# Altium schematic symbol library ARCOM_freq_synthesizer.SchLib: 30 symbols
Pins are listed as number, name and electrical type; pins without a type are passive.

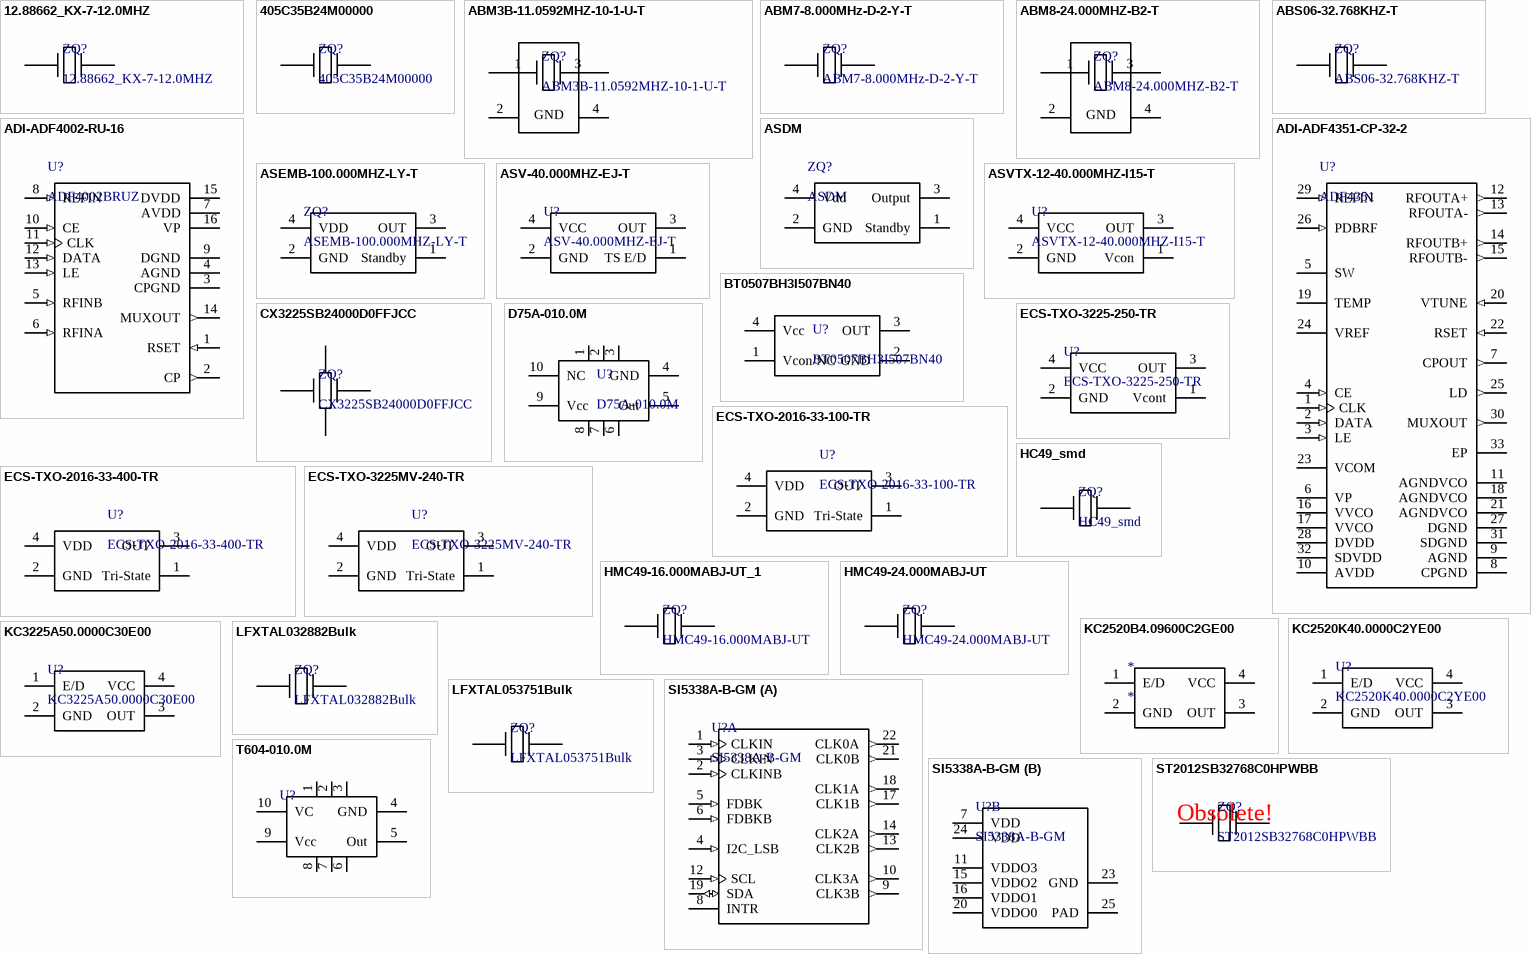
[diagram p0: symbols 12.88662_KX-7-12.0MHZ to T604-010.0M]

## 12.88662_KX-7-12.0MHZ
designator ZQ?
16MHz Crystal Oscillator, 12pF, 30ppm; Manufacturer: GEYER; ComponentLink1Description: Manufacturer; ComponentLink1URL: https://www.geyer-electronic.com; ComponentLink2Description: Datasheet; ComponentLink2URL: https://www.geyer-electronic.com/uploads/tx_userartikelfrequenzstockfr/12.88662.pdf; Manufacturer P/N: 12.88662_KX-7-12.0MHZ; Part: 12.88662_KX-7-12.0MHZ; Family: Crystall; Comments: 12pF
footprint ECS-3225 - new
pins: 1, 3

## 405C35B24M00000
designator ZQ?
24MHz Crystal Oscillator, 13pF, 50ppm; Manufacturer: CTS Electronic Components, Inc.; ComponentLink1Description: Manufacturer; ComponentLink1URL: https://www.ctscorp.com/; ComponentLink2Description: Datasheet; ComponentLink2URL: https://eu.mouser.com/datasheet/2/96/405-1770984.pdf; Manufacturer P/N: 405C35B24M00000; Part: 405C35B24M00000; Family: Crystall; Comments: 13pF; Frequency: 24MHz
footprint 405C35B
pins: 1, 3

## ABM3B-11.0592MHZ-10-1-U-T
designator ZQ?
Manufacturer: ABRACON; ComponentLink1Description: *; ComponentLink1URL: *; ComponentLink2Description: *; ComponentLink2URL: *; Family: Crystall; Manufacturer P/N: ABM3B-11.0592MHZ-10-1-U-T; Part: ABM3B-11.0592MHZ-10-1-U-T
footprint ABM3B
pins: 1, 2 GND, 3, 4 GND

## ABM7-8.000MHz-D-2-Y-T
designator ZQ?
SMD Crystal Unit 8MHz; Manufacturer: ABRACON Corporation; ComponentLink1Description: Manufacturer; ComponentLink1URL: http://www.abracon.com; ComponentLink2Description: Datasheet; ComponentLink2URL: http://www.abracon.com/Resonators/abm7.pdf; Manufacturer P/N: ABM7-8.000MHZ-D-2-Y-T; Part: ABM7-8.000MHZ-D-2-Y-T; Family: Crystall
footprint ABM7
pins: 1, 2

## ABM8-24.000MHZ-B2-T
designator ZQ?
Manufacturer: ABRACON; ComponentLink1Description: *; ComponentLink1URL: *; ComponentLink2Description: *; ComponentLink2URL: *; Family: Crystall; Manufacturer P/N: ABM8-24.000MHZ-B2-T; Part: ABM8-24.000MHZ-B2-T
footprint ABM8
pins: 1, 2 GND, 3, 4 GND

## ABS06-32.768KHZ-T
designator ZQ?
CRYSTAL 32.7680KHZ 12PF SMD; Manufacturer: Abracon LLC; ComponentLink1Description: Manufacturer; ComponentLink2Description: Datasheet; Manufacturer P/N: ABS06-32.768KHZ-T; Part: ABS06-32.768KHZ-T; Family: Crystall
footprint ST2012
pins: 1, 2

## ADI-ADF4002-RU-16
designator U?, comment ADF4002BRUZ
Phase Detector/Frequency Synthesizer, RU-16, Pb-Free, 96 Tube; Manufacturer: Analog Devices Inc.; ComponentLink1Description: Manufacturer; ComponentLink1URL: http://www.analog.com/; ComponentLink2Description: Deatasheet; ComponentLink2URL: http://www.analog.com/media/en/technical-documentation/data-sheets/ADF4002.pdf; Manufacturer P/N: ADF4002BRUZ; Part: ADF4002BRUZ; Family: Chip
footprint TSSOP-16_L (SOP, 16-Leads, Body 5.1x4.5mm, Pitch 0.65mm, IPC High Density)
footprint TSSOP-16_M (SOP, 16-Leads, Body 5.1x4.5mm, Pitch 0.65mm, IPC Low Density)
footprint TSSOP-16_N (SOP, 16-Leads, Body 5.1x4.5mm, Pitch 0.65mm, IPC Medium Density)
pins: 1 RSET (in) "Connecting a resistor between this pin and CPGND sets the maximum charge pump output current. The nominal voltage potential at the RSET pin is 0.66 V. [see datasheet]", 2 CP (out) "Charge Pump Output. When enabled, this provides ±ICP to the external loop filter that, in turn, drives the external VCO.", 3 CPGND (power) "Charge Pump Ground. This is the ground return path for the charge pump.", 4 AGND (power) "Analog Ground. This is the ground return path of the RF input.", 5 RFINB (in) "Complementary Input to the RF Input. This point must be decoupled to the ground plane with a small bypass capacitor, typically 100 pF. See Figure 11.", 6 RFINA (in) "Input to the RF Input. This small signal input is ac-coupled to the external VCO.", 7 AVDD (power) "Analog Power Supply. This can range from 2.7 V to 3.3 V. Decoupling capacitors to the analog ground plane should be placed as close as possible to the AVDD pin. [see datasheet]", 8 REFIN (in) "Reference Input. This is a CMOS input with a nominal threshold of VDD/2 and a dc equivalent input resistance of 100 kO. See Figure 10. [see datasheet]", 9 DGND (power) "Digital Ground.", 10 CE (in) "Chip Enable. A logic low on this pin powers down the device and puts the charge pump output into three-state mode. [see datasheet]", 11 CLK (in) "Serial Clock Input. This serial clock is used to clock in the serial data to the registers. The data is latched into the 24-bit shift register on the CLK rising edge. [see datasheet]", 12 DATA (in) "Serial Data Input. The serial data is loaded MSB first with the two LSBs being the control bits. This input is a high impedance CMOS input.", 13 LE (in) "Load Enable, CMOS Input. When LE goes high, the data stored in the shift registers is loaded into one of the four latches; the latch is selected using the control bits.", 14 MUXOUT (out) "Multiplexer Output. This allows either the lock detect, the scaled RF, or the scaled reference frequency to be accessed externally.", 15 DVDD (power) "Digital Power Supply. This can range from 2.7 V to 3.3 V. Decoupling capacitors to the digital ground plane should be placed as close as possible to this pin. [see datasheet]", 16 VP (power) "Charge Pump Power Supply. This should be greater than or equal to VDD. In systems where VDD is 3 V, it can be set to 5.5 V and used to drive a VCO with a tuning range of up to 5 V."

## ADI-ADF4351-CP-32-2
designator U?, comment ADF4351
Wideband Synthesizer with Integrated VCO; Manufacturer: Analog Devices; ComponentLink1Description: Manufacturer; ComponentLink1URL: www.analog.com; ComponentLink2Description: Datasheet; ComponentLink2URL: http://www.analog.com/media/en/technical-documentation/data-sheets/ADF4351.pdf; Family: Chips; Manufacturer P/N: *; Part: *
footprint ADI-CP-32-2_L (QFN, 32-Leads, Body 5x5mm, Pitch 0.5mm, Thermal Pad 3.1x3.1mm, IPC High Density)
footprint ADI-CP-32-2_M (QFN, 32-Leads, Body 5x5mm, Pitch 0.5mm, Thermal Pad 3.1x3.1mm, IPC Low Density)
footprint ADI-CP-32-2_N (QFN, 32-Leads, Body 5x5mm, Pitch 0.5mm, Thermal Pad 3.1x3.1mm, IPC Medium Density)
pins: 1 CLK (in) "Serial Clock Input. Data is clocked into the 32-bit shift register on the CLK rising edge. This input is a high impedance CMOS input.", 2 DATA (in) "Serial Data Input. The serial data is loaded MSB first with the three LSBs as the control bits. This input is a highimpedance CMOS input.", 3 LE (in) "Load Enable, CMOS Input. When LE goes high, the data stored in the shift register is loaded into the register that is selected by the three LSBs.", 4 CE (in) "Chip Enable. A logic low on this pin powers down the device and puts the charge pump into three-state mode. [see datasheet]", 5 SW "Fast-Lock Switch. A connection should be made from the loop filter to this pin when using the fast-lock mode.", 6 VP (power) "Charge Pump Power Supply. This pin is to be equal to AVDD. Decoupling capacitors to the ground plane are to be placed as close as possible to this pin.", 7 CPOUT (out) "Charge Pump Output. When enabled, this provides +/-ICP to the external loop filter. The output of the loop filter is connected to VTUNE to drive the internal VCO.", 8 CPGND (power) "Charge Pump Ground. This is the ground return pin for CPOUT.", 9 AGND (power) "Analog Ground. This is a ground return pin for AVDD.", 10 AVDD (power) "Analog Power Supply. This pin ranges from 3.0 V to 3.6 V. Decoupling capacitors to the analog ground plane are to be placed as close as possible to this pin. [see datasheet]", 11 AGNDVCO (power) "VCO Analog Ground. These are the ground return pins for the VCO.", 12 RFOUTA+ (out) "VCO Output. The output level is programmable. The VCO fundamental output or a divided down version is available.", 13 RFOUTA- (out) "Complementary VCO Output. The output level is programmable. The VCO fundamental output or a divide down version is available.", 14 RFOUTB+ (out) "Auxilliary VCO Output. The output level is programmable. The VCO fundamental output or a divided down version is available.", 15 RFOUTB- (out) "Complementary Auxilliary VCO Output. The output level is programmable. The VCO fundamental output or a divided down version is available.", 16 VVCO (power) "Power Supply for the VCO. This ranges from 3.0 V to 3.6 V. Decoupling capacitors to the analog ground plane should be placed as close as possible to these pins. [see datasheet]", 17 VVCO (power) "Power Supply for the VCO. This ranges from 3.0 V to 3.6 V. Decoupling capacitors to the analog ground plane should be placed as close as possible to these pins. [see datasheet]", 18 AGNDVCO (power) "VCO Analog Ground. These are the ground return pins for the VCO.", 19 TEMP "Temperature Compensation Output. Decoupling capacitors to the ground plane are to be placed as close as possible to this pin.", 20 VTUNE (in) "Control Input to the VCO. This voltage determines the output frequency and is derived from filtering the CPOUT output voltage.", 21 AGNDVCO (power) "VCO Analog Ground. These are the ground return pins for the VCO.", 22 RSET (in) "Connecting a resistor between this pin and GND sets the charge pump output current. The nominal voltage bias at the RSET pin is 0.55 V.", 23 VCOM "Internal Compensation Node Biased at Half the Tuning Range. Decoupling capacitors to the ground plane should be placed as close as possible to this pin.", 24 VREF "Reference Voltage. Decoupling capacitors to the ground plane should be placed as close as possible to this pin.", 25 LD (out) "Lock Detect Output Pin. This pin outputs a logic high to indicate PLL lock. A logic low output indicates loss of PLL lock.", 26 PDBRF (in) "RF Power-Down. A logic low on this pin mutes the RF outputs. This function is also software controllable.", 27 DGND (power) "Digital Ground. Ground return path for DVDD.", 28 DVDD (power) "Digital Power Supply. This pin should be the same voltage as AVDD. Decoupling capacitors to the ground plane should be placed as close as possible to this pin.", 29 REFIN (in) "Reference Input. This is a CMOS input with a nominal threshold of VDD/2 and a dc equivalent input resistance of 100 k ohm. [see datasheet]", 30 MUXOUT (out) "Multiplexer Output. This multiplexer output allows either the lock detect, the scaled RF, or the scaled reference frequency to be accessed externally.", 31 SDGND (power) "Digital Sigma-Delta Modulator Ground. Ground return path for the Sigma-Delta Modulator.", 32 SDVDD (power) "Power Supply Pin for the Digital Sigma-Delta Modulator. Should be the same voltage as AVDD. Decoupling capacitors to the ground plane are to be placed as close as possible to this pin.", 33 EP (power) "Exposed Pad."

## ASDM
designator ZQ?
Manufacturer: Abracon; ComponentLink1Description: Manufacturer; ComponentLink1URL: *; ComponentLink2Description: Datasheet; ComponentLink2URL: *; family: *; Manufacturer P/N: *; part: *
footprint ASDM (2.5mm x 2mm)
pins: 1 Standby, 2 GND, 3 Output, 4 Vdd

## ASEMB-100.000MHZ-LY-T
designator ZQ?
Standard Clock Oscillators 100MHz 10ppm; Manufacturer: ABRACON Corporation; ComponentLink1Description: *; ComponentLink1URL: *; ComponentLink2Description: *; ComponentLink2URL: *; Family: Freq_synthesizer; Manufacturer P/N: ASEMB-100.000MHZ-LY-T; Part: ASEMB-100.000MHZ-LY-T
footprint ASEMB
pins: 1 Standby, 2 GND, 3 OUT, 4 VDD

## ASV-40.000MHZ-EJ-T
designator U?
3.3V HCMOS SMD Crystal Clock Oscillator 40MHz; Manufacturer: ABRACON; ComponentLink1Description: Manufacturer; ComponentLink1URL: http://www.abracon.com/; ComponentLink2Description: Datasheet; ComponentLink2URL: http://www.mouser.com/ds/2/3/ASV-24925.pdf; Family: Crystall; Part: ASV-40.000MHZ-EJ-T; Manufacturer P/N: ASV-40.000MHZ-EJ-T
footprint ASV
pins: 1 TS E/D, 2 GND, 3 OUT, 4 VCC

## ASVTX-12-40.000MHZ-I15-T
designator U?
40MHz Clipped Sine Wave VCTCXO Oscillator Surface Mount 3V 2.5mA; Manufacturer: ABRACON; ComponentLink1Description: Manufacturer; ComponentLink1URL: http://www.abracon.com/; ComponentLink2Description: Datasheet; Family: Crystall; Part: ASVTX-12-40.000MHZ-I15-T; Manufacturer P/N: ASVTX-12-40.000MHZ-I15-T
footprint ASV
pins: 1 Vcon, 2 GND, 3 OUT, 4 VCC

## BT0507BH3I507BN40
designator U?
40 MHz TCXO HCMOS Oscillator 3.3V 10-SMD, No Lead; Manufacturer: XTALTQ Technologies; Manufacturer P/N: BT0507BH3I507BN40; Family: Crystall; Part: BT0507BH3I507BN40; ComponentLink1Description: Manufacturer; ComponentLink1URL: https://www.xtaltq.com/; ComponentLink2Description: Datasheet; ComponentLink2URL: https://mm.digikey.com/Volume0/opasdata/d220001/medias/docus/3980/BT0507B.pdf
footprint BT0507
pins: 1 Vcon/NC, 2 GND, 3 OUT, 4 Vcc

## CX3225SB24000D0FFJCC
designator ZQ?
24MHz Crystal Oscillator; Manufacturer: Kyocera; Comments: 8pF; ComponentLink1Description: Manufacturer; ComponentLink2Description: Datasheet; Manufacturer P/N: CX3225SB24000D0FFJCC; Part: CX3225SB24000D0FFJCC; Family: Crystall; Frequency: 24MHz
footprint CX3225SB
pins: 1, 2, 3, 4

## D75A-010.0M
designator U?
TCXO Oscillator 10.000MHz 3.3V SMD; Manufacturer: Connor Winfield; ComponentLink1Description: Manufacturer; ComponentLink1URL: http://www.conwin.com/; ComponentLink2Description: Datasheet; ComponentLink2URL: http://www.conwin.com/datasheets/tx/tx236.pdf; Family: Crystall; Manufacturer P/N: D75A-010.0M
footprint 10-SMD(VCTCXO)
pins: 1 NC, 2 NC, 3 NC, 4 GND, 5 Out, 6 NC, 7 NC, 8 Enable/Disable, 9 Vcc, 10 NC

## ECS-TXO-2016-33-100-TR
designator U?
HCMOS TCXO; Manufacturer: ECS Inc.; ComponentLink1Description: Manufacturer; ComponentLink1URL: https://ecsxtal.com/; ComponentLink2Description: Datasheet; ComponentLink2URL: https://www.mouser.co.uk/datasheet/2/122/ECS-TXO-2016-1601065.pdf; Family: Crystall; Manufacturer P/N: ECS-TXO-2016-33-100-TR; Part: ECS-TXO-2016-33-100-TR
footprint ECS-2016
pins: 1 Tri-State, 2 GND, 3 OUT, 4 VDD

## ECS-TXO-2016-33-400-TR
designator U?
HCMOS TCXO; Manufacturer: ECS Inc.; ComponentLink1Description: Manufacturer; ComponentLink1URL: https://ecsxtal.com/; ComponentLink2Description: Datasheet; ComponentLink2URL: https://www.mouser.co.uk/datasheet/2/122/ECS-TXO-2016-1601065.pdf; Family: Crystall; Manufacturer P/N: ECS-TXO-2016-33-400-TR; Part: ECS-TXO-2016-33-400-TR
footprint ECS-2016
pins: 1 Tri-State, 2 GND, 3 OUT, 4 VDD

## ECS-TXO-3225-250-TR
designator U?
HCMOS TCXO; ComponentLink1Description: *; ComponentLink1URL: *; ComponentLink2Description: *; ComponentLink2URL: *; Family: *; Manufacturer: *; Manufacturer P/N: *; Part: *
footprint ECS-3225
pins: 1 Vcont, 2 GND, 3 OUT, 4 VCC

## ECS-TXO-3225MV-240-TR
designator U?
MultiVolt HCMOS TCXO; Manufacturer: ECS Inc.; ComponentLink1Description: Manufacturer; ComponentLink1URL: https://ecsxtal.com/; ComponentLink2Description: Datasheet; ComponentLink2URL: https://www.mouser.co.uk/datasheet/2/122/ECS-TXO-3225MV-1634330.pdf; Family: Crystall; Manufacturer P/N: ECS-TXO-3225MV-240-TR; Part: ECS-TXO-3225MV-240-TR
footprint ECS-3225 - new
pins: 1 Tri-State, 2 GND, 3 OUT, 4 VDD

## HC49_smd
designator ZQ?
ComponentLink1Description: Manufacturer; ComponentLink2Description: Datasheet; Manufacturer: *; Manufacturer P/N: *; Part: *; Family: Crystall
footprint HC49_smd
pins: 1, 2

## HMC49-16.000MABJ-UT_1
designator ZQ?, comment HMC49-16.000MABJ-UT
16MHz Crystal Oscillator; Manufacturer: Citizen FineDevice; Comments: 18pF; ComponentLink1Description: Manufacturer; ComponentLink2Description: Datasheet; ComponentLink2URL: http://www.mouser.com/ds/2/77/HCM49_E-1131450.pdf; Manufacturer P/N: HMC49-16.000MABJ-UT; Part: HMC49-16.000MABJ-UT; Family: Crystall
footprint HC49_smd
pins: 1, 2

## HMC49-24.000MABJ-UT
designator ZQ?
24MHz Crystal Oscillator; Manufacturer: Citizen FineDevice; Comments: 18pF; ComponentLink1Description: Manufacturer; ComponentLink2Description: Datasheet; ComponentLink2URL: http://www.mouser.com/ds/2/77/HCM49_E-1131450.pdf; Manufacturer P/N: HMC49-24.000MABJ-UT; Part: HMC49-24.000MABJ-UT; Family: Crystall
footprint HC49_smd
pins: 1, 2

## KC2520B4.09600C2GE00
designator *
footprint KC2520-series
pins: 1 E/D, 2 GND, 3 OUT, 4 VCC

## KC2520K40.0000C2YE00
designator U?
Manufacturer: Kyocera; ComponentLink1Description: Manufacturer; ComponentLink1URL: *; ComponentLink2Description: Datasheet; ComponentLink2URL: *; Family: *; Manufacturer P/N: KC2520K40.0000C2YE00; Part: KC2520K40.0000C2YE00
footprint KC2520-series
pins: 1 E/D, 2 GND, 3 OUT, 4 VCC

## KC3225A50.0000C30E00
designator U?
Manufacturer: KYOCERA; ComponentLink1Description: Manufacturer; ComponentLink2Description: Datasheet; ComponentLink2URL: http://www.mouser.com/ds/2/40/kc3225a_c3_e-514814.pdf; Manufacturer P/N: KC3225A50.0000C30E00; Part: KC3225A50.0000C30E00; Family: Crystall
footprint KC3225A-C3_series
pins: 1 E/D, 2 GND, 3 OUT, 4 VCC

## LFXTAL032882Bulk
designator ZQ?
24MHz Crystal Oscillator, 16pF, 30ppm; Manufacturer: IQD; ComponentLink1Description: Manufacturer; ComponentLink2Description: Datasheet; ComponentLink2URL: https://ru.mouser.com/datasheet/2/741/LFXTAL032882Bulk-997321.pdf; Manufacturer P/N: LFXTAL032882Bulk; Part: LFXTAL032882Bulk; Family: Crystall; Comments: 16pF
footprint HC49_smd
pins: 1, 2

## LFXTAL053751Bulk
designator ZQ?
16MHz Crystal Oscillator, 16pF, 30ppm; Manufacturer: IQD; ComponentLink1Description: Manufacturer; ComponentLink2Description: Datasheet; ComponentLink2URL: https://ru.mouser.com/datasheet/2/741/LFXTAL053751Bulk-999357.pdf; Manufacturer P/N: LFXTAL053751Bulk; Part: LFXTAL053751Bulk; Family: Crystall; Comments: 16pF
footprint HC49_smd
pins: 1, 2

## SI5338A-B-GM
designator U?
I2C-Programmable Any-Frequency, Any-Output Quad Clock Generator, 1.8 / 2.5 / 3.3 V, 0.16 to 710 MHz Output, -40 to 85 degC, 24-pin QFN; Manufacturer: Silicon Labs; ComponentLink1Description: Manufacturer; ComponentLink1URL: http://www.silabs.com/Pages/default.aspx; ComponentLink2Description: Datasheet; ComponentLink2URL: http://www.silabs.com/Support%20Documents/TechnicalDocs/Si5338.pdf; Manufacturer P/N: SI5338A-B-GM; Part: SI5338A-B-GM; Family: Chip
footprint SLAB-QFN-24-2500x2500TP_L (QFN, 24-Leads, Body 4x4mm, Pitch 0.5mm, Thermal Pad 2.5x2.5mm, IPC High Density)
footprint SLAB-QFN-24-2500x2500TP_M (QFN, 24-Leads, Body 4x4mm, Pitch 0.5mm, Thermal Pad 2.5x2.5mm, IPC Low Density)
footprint SLAB-QFN-24-2500x2500TP_N (QFN, 24-Leads, Body 4x4mm, Pitch 0.5mm, Thermal Pad 2.5x2.5mm, IPC Medium Density)
part A pins: 1 CLKIN (in) "These pins are used as the main differential clock input or as the XTAL input.", 2 CLKINB (in) "These pins are used as the main differential clock input or as the XTAL input.", 3 CLKIN (in) "Provides a high-impedance clock input for single ended clock signals.", 4 I2C_LSB (in) "This is the LSB of the Si5338 I2C address.", 5 FDBK (in) "These pins can be used as a differential feedback input in zero delay mode or as a secondary clock input.", 6 FDBKB (in) "These pins can be used as a differential feedback input in zero delay mode or as a secondary clock input.", 8 INTR (oc) "Interrupt.", 9 CLK3B (out) "Output Clock B for Channel 3", 10 CLK3A (out) "Output Clock A for Channel 3", 12 SCL (in) "I2C Serial Clock Input.", 13 CLK2B (out) "Output Clock B for Channel 2", 14 CLK2A (out) "Output Clock A for Channel 2", 17 CLK1B (out) "Output Clock B for Channel 1", 18 CLK1A (out) "Output Clock A for Channel 1", 19 SDA (io) "I2C Serial Data.", 21 CLK0B (out) "Output Clock B for Channel 0", 22 CLK0A (out) "Output Clock A for Channel 0"
part B pins: 7 VDD (oc) "Interrupt.", 11 VDDO3 (oc) "Interrupt.", 15 VDDO2 (oc) "Interrupt.", 16 VDDO1 (oc) "Interrupt.", 20 VDDO0 (oc) "Interrupt.", 23 GND (oc) "Interrupt.", 24 VDD (oc) "Interrupt.", 25 PAD (oc) "Interrupt."

## ST2012SB32768C0HPWBB
designator ZQ?
Obsolete! ST2012SB32768C0HPWBB; Manufacturer: AVX/Kyocera; ComponentLink1Description: Manufacturer; ComponentLink2Description: Datasheet; Manufacturer P/N: ST2012SB32768C0HPWBB; Part: ST2012SB32768C0HPWBB; Family: Crystall; Lifecycle: Obsolete!
footprint ST2012
pins: 1, 2

## T604-010.0M
designator U?, comment VCXO 10M  (value not drawn)
OSC VCTCXO 10.000 MHZ 3.3V SMD; Manufacturer: Connor Winfield; Manufacturer P/N: T604-010.0M; ComponentLink1Description: Manufacturer; ComponentLink1URL: http://www.conwin.com; ComponentLink2Description: Datasheet; ComponentLink2URL: http://www.conwin.com/datasheets/tx/tx176.pdf; Part: T604-010.0M; Family: Crystall
footprint 10-SMD(VCTCXO)
pins: 1, 2, 3, 4 GND, 5 Out, 6, 7, 8, 9 Vcc, 10 VC